# EAGLE library part 74177 (library s100)
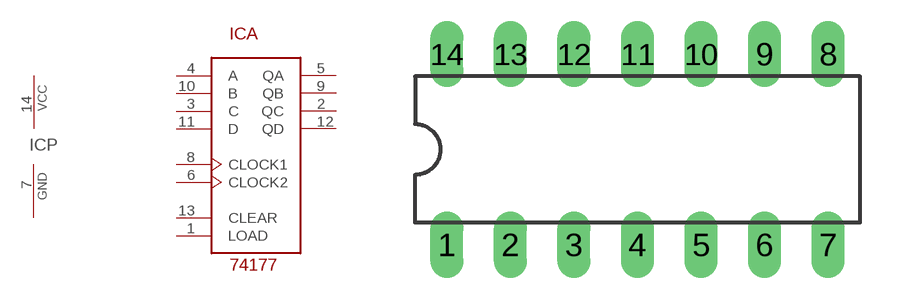
[diagram p4: symbol with the pads of DIL14; footprint DIL14]

Designator prefix IC; gates A=74177 P=PWRN

## 74177  [DIL14]
1  A:LOAD
2  A:QC
3  A:C
4  A:A
5  A:QA
6  A:CLOCK2
7  P:GND  pwr
8  A:CLOCK1
9  A:QB
10  A:B
11  A:D
12  A:QD
13  A:CLEAR
14  P:VCC  pwr

## Footprint DIL14 (pad centres in mm)
Dual In Line Package
drill 0.813 long: 1 -7.62,-3.81; 2 -5.08,-3.81; 3 -2.54,-3.81; 4 0,-3.81; 5 2.54,-3.81; 6 5.08,-3.81; 7 7.62,-3.81; 8 7.62,3.81; 9 5.08,3.81; 10 2.54,3.81; 11 0,3.81; 12 -2.54,3.81; 13 -5.08,3.81; 14 -7.62,3.81